# Altium integrated library 08053C105J4T2A.IntLib: 1 symbol
Pins are listed as number, name and electrical type; pins without a type are passive.

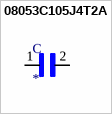
[diagram p0: symbol 08053C105J4T2A]

## 08053C105J4T2A
designator C
1ÂµF Â±5% 25V Ceramic Capacitor X7R 0805 _2012 Metric_; MF: AVX; MP: 08053C105J4T2A; Value: *; SnapEDA_Link: https://www.snapeda.com/parts/08053C105J4T2A/AVX/view-part/4168206/?ref=snap; Price: None; Availability: Unavailable; Package: 2012 AVX
footprint CAPC2012X140N
pins: 1, 2